# EAGLE library part SAMD21J (library SAMD21J)
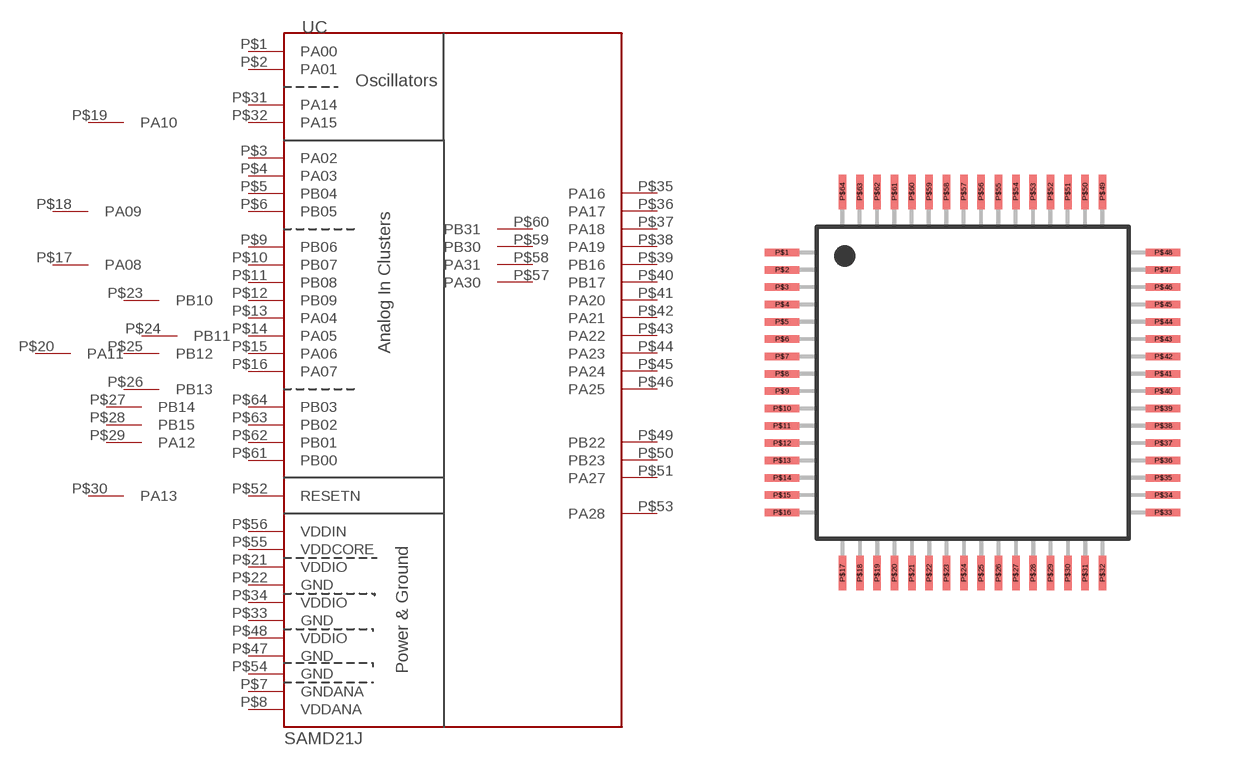
[diagram p0: symbol with the pads of TQFP-64; footprint TQFP-64]

Designator prefix UC

## SAMD21JTQFP-64  [TQFP-64]
P$1  PA00
P$2  PA01
P$3  PA02
P$4  PA03
P$5  PB04
P$6  PB05
P$7  GNDANA  pwr
P$8  VDDANA  pwr
P$9  PB06
P$10  PB07
P$11  PB08
P$12  PB09
P$13  PA04
P$14  PA05
P$15  PA06
P$16  PA07
P$17  PA08
P$18  PA09
P$19  PA10
P$20  PA11
P$21  VDDIO  pwr
P$22  GND  pwr
P$23  PB10
P$24  PB11
P$25  PB12
P$26  PB13
P$27  PB14
P$28  PB15
P$29  PA12
P$30  PA13
P$31  PA14
P$32  PA15
P$33  GND  pwr
P$34  VDDIO  pwr
P$35  PA16
P$36  PA17
P$37  PA18
P$38  PA19
P$39  PB16
P$40  PB17
P$41  PA20
P$42  PA21
P$43  PA22
P$44  PA23
P$45  PA24
P$46  PA25
P$47  GND  pwr
P$48  VDDIO  pwr
P$49  PB22
P$50  PB23
P$51  PA27
P$52  RESETN  in
P$53  PA28
P$54  GND  pwr
P$55  VDDCORE  pwr
P$56  VDDIN  pwr
P$57  PA30
P$58  PA31
P$59  PB30
P$60  PB31
P$61  PB00
P$62  PB01
P$63  PB02
P$64  PB03

## Footprint TQFP-64 (pad centres in mm)
smd 1 x 0.22: P$1 -5.5,3.5; P$2 -5.5,3; P$3 -5.5,2.5; P$4 -5.5,2; P$5 -5.5,1.5; P$6 -5.5,1; P$7 -5.5,0.5; P$8 -5.5,0; P$9 -5.5,-0.5; P$10 -5.5,-1; P$11 -5.5,-1.5; P$12 -5.5,-2; P$13 -5.5,-2.5; P$14 -5.5,-3; P$15 -5.5,-3.5; P$16 -5.5,-4; P$33 5.5,-4; P$34 5.5,-3.5; P$35 5.5,-3; P$36 5.5,-2.5; P$37 5.5,-2; P$38 5.5,-1.5; P$39 5.5,-1; P$40 5.5,-0.5; P$41 5.5,0; P$42 5.5,0.5; P$43 5.5,1; P$44 5.5,1.5; P$45 5.5,2; P$46 5.5,2.5; P$47 5.5,3; P$48 5.5,3.5
smd 0.22 x 1: P$17 -3.75,-5.75; P$18 -3.25,-5.75; P$19 -2.75,-5.75; P$20 -2.25,-5.75; P$21 -1.75,-5.75; P$22 -1.25,-5.75; P$23 -0.75,-5.75; P$24 -0.25,-5.75; P$25 0.25,-5.75; P$26 0.75,-5.75; P$27 1.25,-5.75; P$28 1.75,-5.75; P$29 2.25,-5.75; P$30 2.75,-5.75; P$31 3.25,-5.75; P$32 3.75,-5.75; P$49 3.75,5.25; P$50 3.25,5.25; P$51 2.75,5.25; P$52 2.25,5.25; P$53 1.75,5.25; P$54 1.25,5.25; P$55 0.75,5.25; P$56 0.25,5.25; P$57 -0.25,5.25; P$58 -0.75,5.25; P$59 -1.25,5.25; P$60 -1.75,5.25; P$61 -2.25,5.25; P$62 -2.75,5.25; P$63 -3.25,5.25; P$64 -3.75,5.25